# Altium footprint library SRU8043-220Y.PCBLIB: 1 footprints
Each footprint in its own frame and in the unit in brackets; x right, y up, seen from the top. Pads: shape width x height; smd on the part's side, far side on the other; paste and mask are expansions set on the pad; w line width, h text height; cw(c..) or ccw(c..) is an arc to the next point about the centre after c.
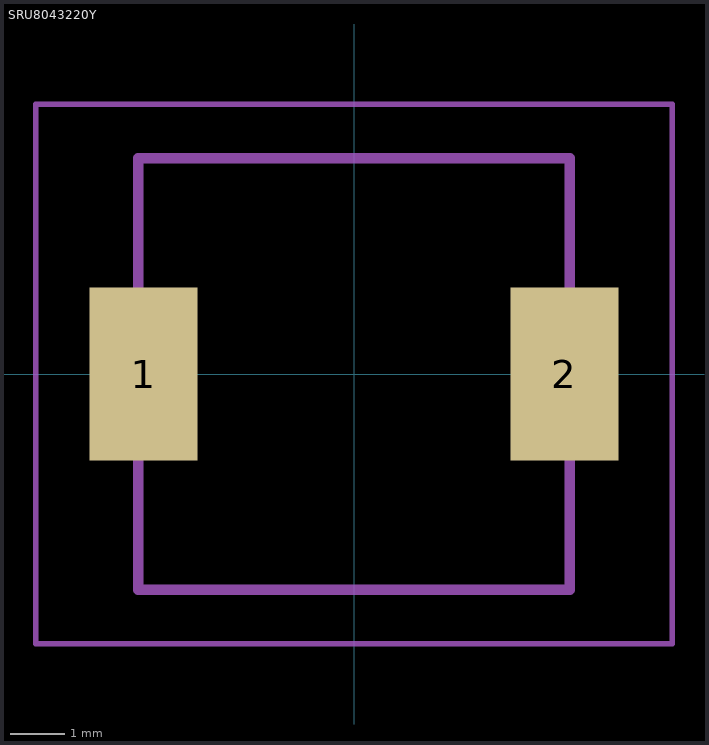
[diagram p0: the footprint, top view; thin cyan lines are the x and y axes]

## SRU8043220Y [mm]
pads (2):
  rect 2x3.2 smd: 1(-3.9,0) 2(3.9,0)
tDocu:
  lines w0.1: -5.9,-5 5.9,-5 5.9,5 -5.9,5 -5.9,-5
  lines w0.2: -4,-4 4,-4 4,4 -4,4 -4,-4
tPlace:
  lines w0.1: -4,-2.54 -4,-4 4,-4 4,-2.54 ; -4,2.54 -4,4 4,4 4,2.54